# EAGLE library part MOSFET-DUAL-P (library Discrete)
Si5933CDC Si5935CDC
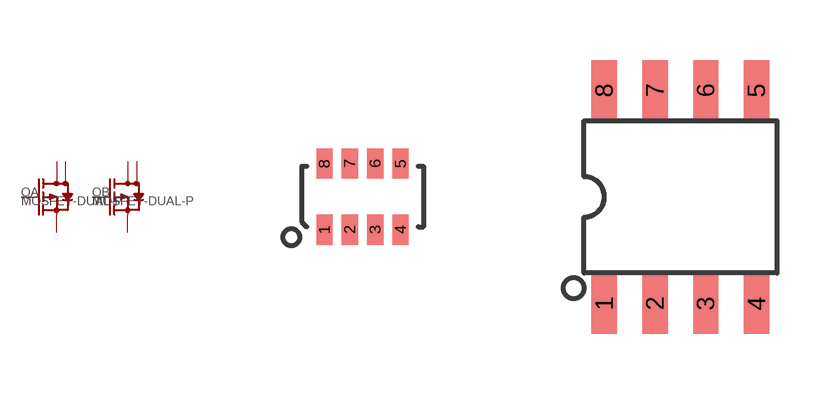
[diagram p3: symbol with the pads of 1206-8; footprints 1206-8, SOP8]

Designator prefix Q; gates B=DUAL_P_MOS A=DUAL_P_MOS

## MOSFET-DUAL-P-1206-8  [1206-8]
1  A:S  pas
2  A:G  pas
3  B:S  pas
4  B:G  pas
5  B:D  pas
6  B:D  pas
7  A:D  pas
8  A:D  pas

## MOSFET-DUAL-P-SOP08  [SOP8]
Pads as for 1206-8

## Footprint 1206-8 (pad centres in mm)
vishay dual mosfet or single mosfet http://www.vishay.com/mosfets/chipfet-package/
smd 0.406 x 0.762: 1 -0.953,-0.826; 2 -0.318,-0.826; 3 0.318,-0.826; 4 0.953,-0.826; 5 0.953,0.826; 6 0.318,0.826; 7 -0.318,0.826; 8 -0.953,0.826

## Footprint SOP8 (pad centres in mm)
SMALL OUTLINE PACKAGE
smd 0.635 x 1.524: 1 -1.905,-2.667; 2 -0.635,-2.667; 3 0.635,-2.667; 4 1.905,-2.667; 5 1.905,2.667; 6 0.635,2.667; 7 -0.635,2.667; 8 -1.905,2.667